# Altium footprint library ControlCircuit_PCB_Library_V1_0.PcbLib: 207 footprints (part 1 of 13)
Each footprint in its own frame and in the unit in brackets; x right, y up, seen from the top. Pads: shape width x height; smd on the part's side, far side on the other; paste and mask are expansions set on the pad; w line width, h text height; cw(c..) or ccw(c..) is an arc to the next point about the centre after c.
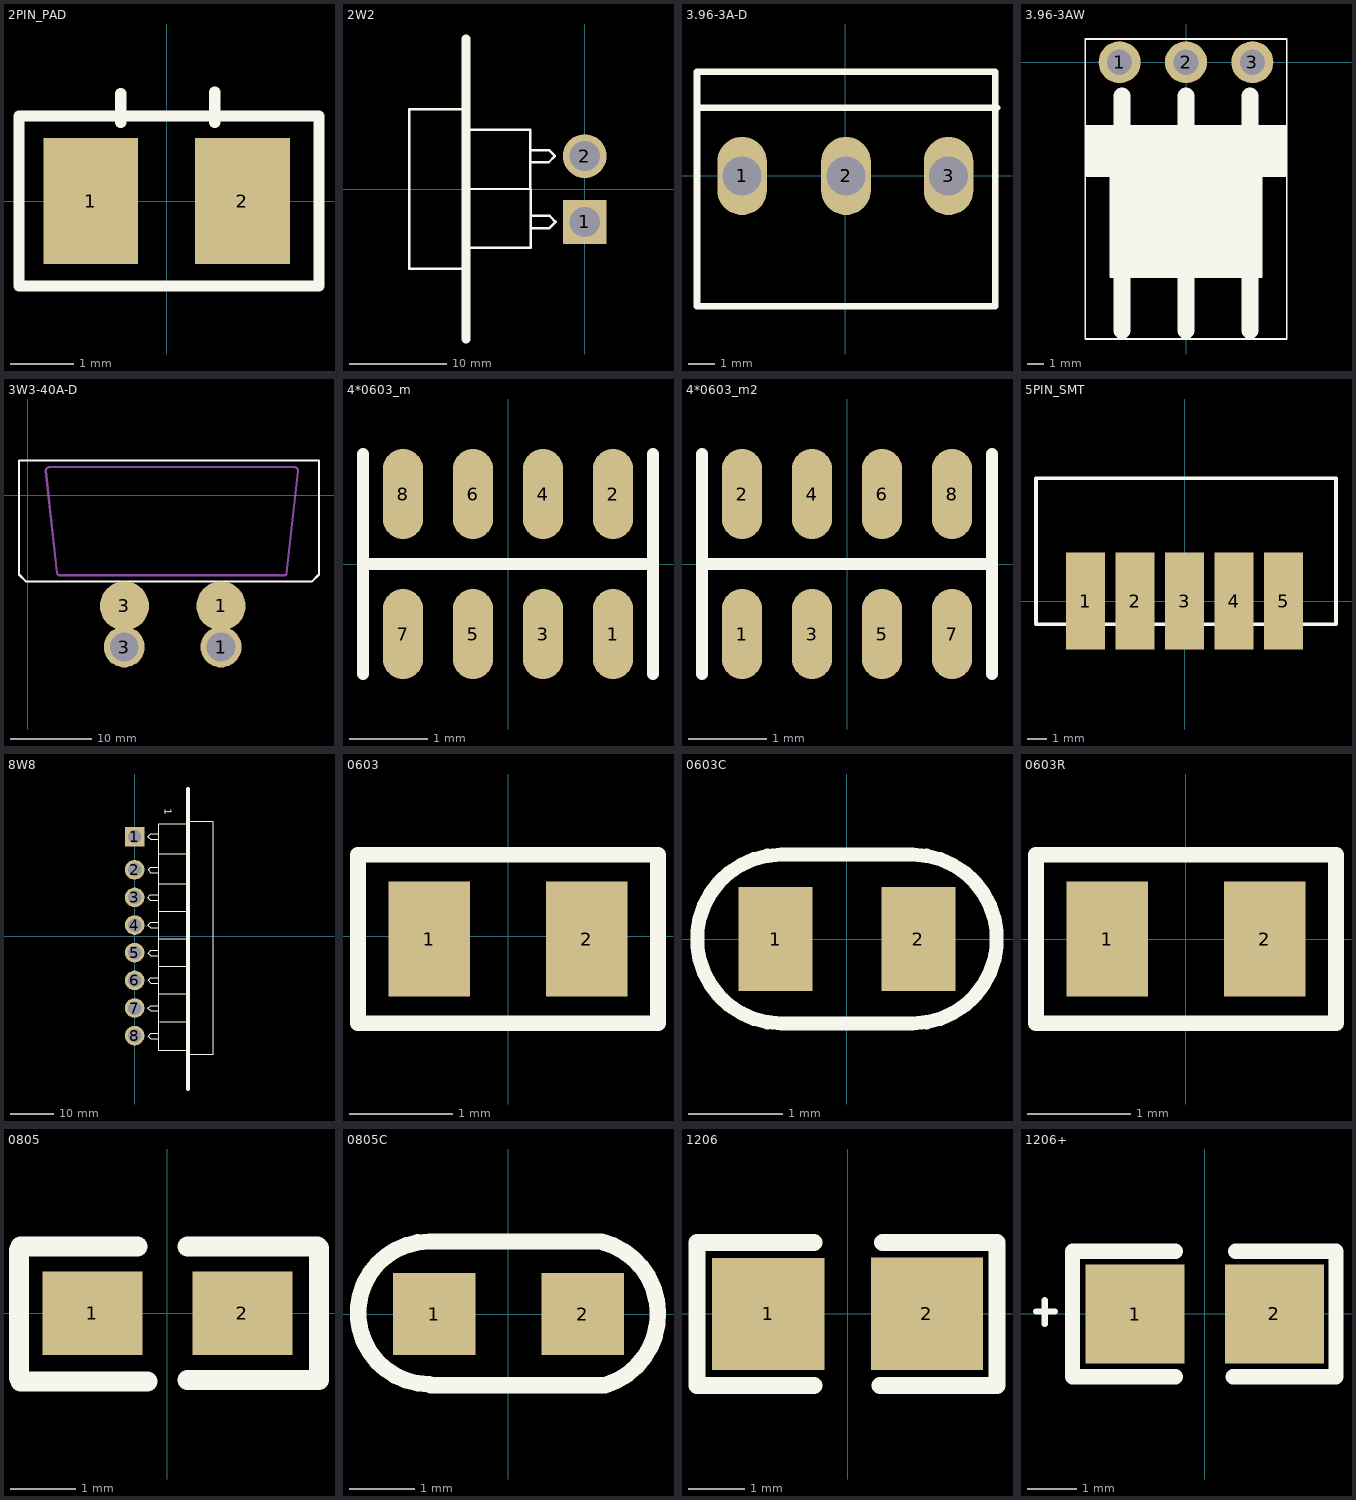
[diagram p0: the footprints below, top view; thin cyan lines are the x and y axes]

## 2PIN_PAD [mm]
pads (2):
  rect 1.5x2 smd: 1(-1.2,0) 2(1.2,0)
Top Overlay:
  lines w0.178: -0.725,1.245 -0.725,1.702 ; 0.762,1.245 0.762,1.727 ; -2.337,-1.346 -2.337,0.991 -2.337,1.346 2.413,1.346 2.413,-1.346 0.901,-1.346 -2.337,-1.346

## 2W2 [mm]
pads (2):
  rect 4.5x4.5 hole 3.1: 1(0,-3.375)
  round 4.5 hole 3.1: 2(0,3.375)
Top Overlay:
  lines w0.254: -12.26,8.17 -18,8.17 -18,-8.17 -12.242,-8.17 ; -12.208,6.096 -5.596,6.096 -5.596,0.051 -5.545,0 -12.2,0 ; -12.2,-6.042 -5.545,-6.042 -5.545,-0.127 ; -5.469,2.743 -3.691,2.743 -3.056,3.378 -3.666,3.988 -5.444,3.988 ; -5.393,-4.013 -3.615,-4.013 -2.98,-3.378 -3.589,-2.769 -5.367,-2.769
  lines w0.9: -12.2,-15.4 -12.2,15.4

## 3.96-3A-D [mm]
pads (3):
  oval 1.9x3 hole 1.5: 1(-3.96,0) 2(0.025,0) 3(3.96,0)
Top Overlay:
  lines w0.254: -5.588,2.616 5.817,2.616 ; -1.56,-5 5.751,-5 5.751,4 -0.112,4 -5.69,4 -5.69,-5 -1.245,-5

## 3.96-3AW [mm]
pads (3):
  round 2.5 hole 1.5: 1(-3.96,0) 2(0,0) 3(3.96,0)
Top Overlay:
  rectangle: -6,-6.8 6,-3.8
  rectangle: -4.5,-12.8 4.5,-3.8
  lines w0.1: -6,-6.8 6,-6.8 ; -6,-3.8 6,-3.8 ; -4.5,-3.8 -4.5,-12.8 4.5,-12.8 4.5,-5 ; -6,-16.5 6,-16.5 6,1.382 -6,1.382 -6,-16.5
  lines w1: -3.81,-16 -3.81,-2 ; 0,-16 0,-2 ; 3.81,-16 3.81,-2
3D body "4879.stp": height 10.06, standoff -3.91, extent -5.89,-20.186 5.844,0.528

## 3W3-40A-D [mm]
pads (4):
  round 5 hole 3.5: 1(23.622,-18.542) 3(11.786,-18.542)
  round 6 smd: 1(23.622,-13.513) 3(11.811,-13.513)
Top Overlay:
  lines w0.254: 35.611,-8.941 35.611,-9.677 ; 35.611,-9.677 34.747,-10.541 -0.229,-10.541 -1.092,-9.677 -1.092,4.267 35.611,4.267 35.611,-9.677
Mechanical 1:
  lines w0.254: 32.616,3.454 cw(c32.616,3.023) 33.048,3.023 ; 32.616,3.454 cw(c32.616,3.023) 33.048,3.023 ; 32.616,3.454 2.616,3.454 ccw(c2.616,3.023) 2.184,3.023 3.581,-9.525 ccw(c3.824,-9.525) 3.824,-9.768 31.408,-9.768 ccw(c31.408,-9.525) 31.651,-9.525 33.048,3.023

## 4*0603_m [mil]
pads (8):
  oval 20x45 smd: 1(52.5,-35) 2(52.5,35) 3(17.5,-35) 4(17.5,35) 5(-17.5,-35) 6(-17.5,35) 7(-52.5,-35) 8(-52.5,35)
Top Overlay:
  lines w6: -72.5,-55 -72.5,55 ; -72.5,0 72.5,0 ; 72.5,-55 72.5,55

## 4*0603_m2 [mil]
pads (8):
  oval 20x45 smd: 1(-52.5,-35) 2(-52.5,35) 3(-17.5,-35) 4(-17.5,35) 5(17.5,-35) 6(17.5,35) 7(52.5,-35) 8(52.5,35)
Top Overlay:
  lines w6: -72.5,-55 -72.5,55 ; -72.5,0 72.5,0 ; 72.5,-55 72.5,55

## 5PIN_SMT [mm]
pads (5):
  rect 2x5 smd: 1(-5.08,0) 2(-2.54,0) 3(0,0) 4(2.54,0) 5(5.08,0)
Top Overlay:
  lines w0.2: -7.62,6.299 -7.62,1.822 -7.62,-1.194 -5.867,-1.194 7.772,-1.194 7.772,6.299 -7.569,6.299

## 8W8 [mm] "8针弯脚电源接口"
pads (8):
  rect 4.5x4.5 hole 3.1: 1(0,22.86)
  round 4.5 hole 3.1: 2(0,15.24) 3(0,8.89) 4(0,2.54) 5(0,-3.81) 6(0,-10.16) 7(0,-16.51) 8(0,-22.86)
Top Overlay:
  lines w0.254: 5.367,8.258 3.589,8.258 2.98,8.868 3.615,9.503 5.393,9.503 ; 5.418,-17.193 3.64,-17.193 3.031,-16.583 3.666,-15.948 5.444,-15.948 ; 5.418,1.934 3.64,1.934 3.031,2.543 3.666,3.178 5.444,3.178 ; 5.418,22.228 3.64,22.228 3.031,22.838 3.666,23.473 5.444,23.473 ; 5.444,-23.568 3.666,-23.568 3.056,-22.958 3.691,-22.323 5.469,-22.323 ; 5.444,-10.766 3.666,-10.766 3.056,-10.157 3.691,-9.522 5.469,-9.522 ; 5.444,-4.493 3.666,-4.493 3.056,-3.883 3.691,-3.248 5.469,-3.248 ; 5.494,14.608 3.716,14.608 3.107,15.218 3.742,15.853 5.52,15.853 ; 5.545,18.999 5.545,-26.187 12.208,-26.187 ; 5.571,-13.281 12.183,-13.281 ; 5.571,-6.906 12.183,-6.906 ; 5.596,-0.632 12.208,-0.632 ; 5.596,12.017 12.208,12.017 ; 5.672,5.744 12.284,5.744 ; 5.698,-19.682 12.31,-19.682 ; 12.2,18.872 5.545,18.872 5.545,25.832 12.2,25.832 ; 12.242,26.385 18,26.385 18,-27.178 12.26,-27.178
  lines w0.9: 12.2,-35.103 12.2,33.782
  text "1" at 6.858,29.286 h1.6

## 0603 [mm]
pads (2):
  rect 0.787x1.11 smd: 1(-0.761,-0.025) 2(0.761,-0.025)
Top Overlay:
  lines w0.15: -0.279,-0.838 1.448,-0.838 ; -0.229,-0.838 -1.448,-0.838 -1.448,0.787 0.33,0.787 ; 0.203,0.787 1.422,0.787 ; 1.448,-0.813 1.448,0.787

## 0603C [mm]
pads (2):
  rect 0.787x1.11 smd: 1(-0.761,0) 2(0.762,0)
Top Overlay:
  lines w0.15: -0.7,-0.9 cw(c-0.7,0) -0.7,0.9 0.7,0.9 cw(c0.7,0) 0.7,-0.9 -0.7,-0.9

## 0603R [mm] "贴片电阻"
pads (2):
  rect 0.787x1.11 smd: 1(-0.761,0) 2(0.762,0)
Top Overlay:
  lines w0.15: -0.279,-0.813 1.448,-0.813 ; -0.229,-0.813 -1.448,-0.813 -1.448,0.813 0.33,0.813 ; 0.203,0.813 1.422,0.813 ; 1.448,-0.787 1.448,0.813

## 0805 [mil]
pads (2):
  rect 60x50 smd: 1(-45,0) 2(45,0)
Top Overlay:
  lines w12: -89,-38.94 -89,38.06 ; -88,-40.94 -12,-40.94 ; -88,38.06 -87,39.06 ; -88,40.06 -18,40.06 ; 12,-39.94 91,-39.94 91,39.06 ; 12,40.06 90,40.06

## 0805C [mil]
pads (2):
  rect 50x50 smd: 1(-45,0) 2(45,0)
Top Overlay:
  lines w10: -48,-42.61 cw(c-48,0.69) -48,44 ; -47.14,-43.31 52.07,-43.31 ; -46.18,44 55,44 ; 53.54,-43.31 58.63,-43.31 ccw(c45.47,0) 56.48,43.9 ; 57.98,43.31 58.63,43.31

## 1206 [mm]
pads (2):
  rect 2x2 smd: 1(-1.41,-0.001) 2(1.41,0.001)
Top Overlay:
  lines w0.305: -0.597,-1.271 -2.68,-1.271 -2.68,1.269 -0.597,1.269 ; 0.572,-1.271 2.654,-1.271 2.654,1.269 0.622,1.269

## 1206+ [mm] "贴片二极管"
height 2
pads (2):
  rect 2x2 smd: 1(-1.41,-0.001) 2(1.41,0.001)
Top Overlay:
  lines w0.127: -3.416,0.05 -3.035,0.05 ; -3.238,-0.204 -3.238,0.279
  lines w0.305: -0.597,-1.271 -2.68,-1.271 -2.68,1.269 -0.597,1.269 ; 0.572,-1.271 2.654,-1.271 2.654,1.269 0.622,1.269